# Altium integrated library NSC Voltage Reference.IntLib: 272 symbols (part 2 of 6)
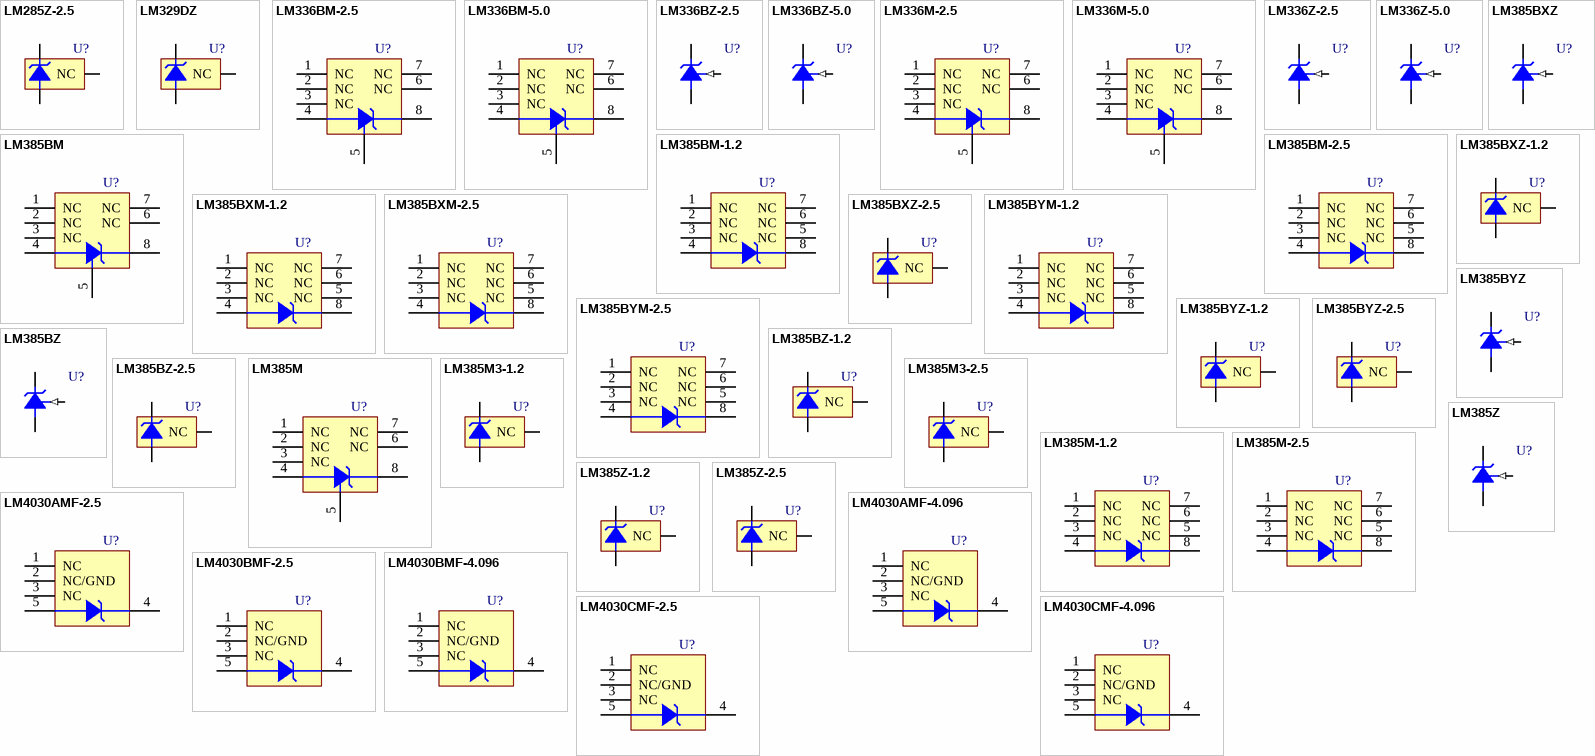
[diagram p7: symbols LM285Z-2.5 to LM4030CMF-4.096]

## LM385BM-1.2
designator U?
Micropower Voltage Reference Diode; PartNumber: LM385BM-1.2; Manufacturer: National Semiconductor; CompType: Voltage Reference IC; PackageTopMarking: NSZXTT*LM385*BM1.2; Published: 4-Dec-2008; DatasheetVersion: Jan-2008; PackageVersion: revL, Sep-2006; PackageReference: M08A; Publisher: Altium Limited; PackageDescription: SOIC Narrow, 4.9 x 3.9 x 1.45mm, 8 Lead, 1.27mm Pitch; RoHS: O; PinCount: 8; DigiKeyPartNumber: LM385BM-1.2-ND; Code_JEDEC: MS-012-AA; Code_IPC: SOIC127P600-8; ComponentLink1Description: LM385-1.2 Datasheet; ComponentLink1URL: http://www.national.com/ds/LM/LM385-1.2.pdf; ComponentLink2Description: LM385-1.2 Web Page; ComponentLink2URL: http://www.national.com/pf/LM/LM385-1.2.html; ComponentLink3Description: M08A Package Page; ComponentLink3URL: http://www.national.com/packaging/folders/m08a.html
footprint M08A_N (SOIC, 8-Leads, Body 4.9x3.9mm, Pitch 1.27mm, IPC Medium Density)
footprint M08A_L (SOIC, 8-Leads, Body 4.9x3.9mm, Pitch 1.27mm, IPC High Density)
footprint M08A_M (SOIC, 8-Leads, Body 4.9x3.9mm, Pitch 1.27mm, IPC Low Density)
pins: 1 NC, 2 NC, 3 NC, 4 -V, 5 NC, 6 NC, 7 NC, 8 +V

## LM385BM-2.5
designator U?
Micropower Voltage Reference Diode; PartNumber: LM385BM-2.5; Manufacturer: National Semiconductor; CompType: Voltage Reference IC; PackageTopMarking: NSZXTT*LM385*BM2.5; Published: 4-Dec-2008; DatasheetVersion: Jan-2008; PackageVersion: revL, Sep-2006; PackageReference: M08A; Publisher: Altium Limited; PackageDescription: SOIC Narrow, 4.9 x 3.9 x 1.45mm, 8 Lead, 1.27mm Pitch; RoHS: O; PinCount: 8; DigiKeyPartNumber: LM385BM-2.5-ND; Code_JEDEC: MS-012-AA; Code_IPC: SOIC127P600-8; ComponentLink1Description: LM385-2.5 Datasheet; ComponentLink1URL: http://www.national.com/ds/LM/LM385-2.5.pdf; ComponentLink2Description: LM385-2.5 Web Page; ComponentLink2URL: http://www.national.com/pf/LM/LM385-2.5.html; ComponentLink3Description: M08A Package Page; ComponentLink3URL: http://www.national.com/packaging/folders/m08a.html
footprint M08A_N (SOIC, 8-Leads, Body 4.9x3.9mm, Pitch 1.27mm, IPC Medium Density)
footprint M08A_L (SOIC, 8-Leads, Body 4.9x3.9mm, Pitch 1.27mm, IPC High Density)
footprint M08A_M (SOIC, 8-Leads, Body 4.9x3.9mm, Pitch 1.27mm, IPC Low Density)
pins: 1 NC, 2 NC, 3 NC, 4 -V, 5 NC, 6 NC, 7 NC, 8 +V

## LM385BXM-1.2
designator U?
Micropower Voltage Reference Diode; PartNumber: LM385BXM-1.2; Manufacturer: National Semiconductor; CompType: Voltage Reference IC; PackageTopMarking: NSZXTT*385BX*M1.2; Published: 4-Dec-2008; DatasheetVersion: Jan-2008; PackageVersion: revL, Sep-2006; PackageReference: M08A; Publisher: Altium Limited; PackageDescription: SOIC Narrow, 4.9 x 3.9 x 1.45mm, 8 Lead, 1.27mm Pitch; RoHS: O; PinCount: 8; DigiKeyPartNumber: LM385BXM-1.2-ND; Code_JEDEC: MS-012-AA; Code_IPC: SOIC127P600-8; ComponentLink1Description: LM385-1.2 Datasheet; ComponentLink1URL: http://www.national.com/ds/LM/LM385-1.2.pdf; ComponentLink2Description: LM385-1.2 Web Page; ComponentLink2URL: http://www.national.com/pf/LM/LM385-1.2.html; ComponentLink3Description: M08A Package Page; ComponentLink3URL: http://www.national.com/packaging/folders/m08a.html
footprint M08A_N (SOIC, 8-Leads, Body 4.9x3.9mm, Pitch 1.27mm, IPC Medium Density)
footprint M08A_L (SOIC, 8-Leads, Body 4.9x3.9mm, Pitch 1.27mm, IPC High Density)
footprint M08A_M (SOIC, 8-Leads, Body 4.9x3.9mm, Pitch 1.27mm, IPC Low Density)
pins: 1 NC, 2 NC, 3 NC, 4 -V, 5 NC, 6 NC, 7 NC, 8 +V

## LM385BXM-2.5
designator U?
Micropower Voltage Reference Diode; PartNumber: LM385BXM-2.5; Manufacturer: National Semiconductor; CompType: Voltage Reference IC; PackageTopMarking: NSZXTT*385BX*M2.5; Published: 4-Dec-2008; DatasheetVersion: Jan-2008; PackageVersion: revL, Sep-2006; PackageReference: M08A; Publisher: Altium Limited; PackageDescription: SOIC Narrow, 4.9 x 3.9 x 1.45mm, 8 Lead, 1.27mm Pitch; RoHS: O; PinCount: 8; DigiKeyPartNumber: LM385BXM-2.5-ND; Code_JEDEC: MS-012-AA; Code_IPC: SOIC127P600-8; ComponentLink1Description: LM385-2.5 Datasheet; ComponentLink1URL: http://www.national.com/ds/LM/LM385-2.5.pdf; ComponentLink2Description: LM385-2.5 Web Page; ComponentLink2URL: http://www.national.com/pf/LM/LM385-2.5.html; ComponentLink3Description: M08A Package Page; ComponentLink3URL: http://www.national.com/packaging/folders/m08a.html
footprint M08A_N (SOIC, 8-Leads, Body 4.9x3.9mm, Pitch 1.27mm, IPC Medium Density)
footprint M08A_L (SOIC, 8-Leads, Body 4.9x3.9mm, Pitch 1.27mm, IPC High Density)
footprint M08A_M (SOIC, 8-Leads, Body 4.9x3.9mm, Pitch 1.27mm, IPC Low Density)
pins: 1 NC, 2 NC, 3 NC, 4 -V, 5 NC, 6 NC, 7 NC, 8 +V

## LM385BXZ
designator U?
Adjustable Micropower Voltage Reference; PartNumber: LM385BXZ; Manufacturer: National Semiconductor; CompType: Voltage Reference IC; PackageTopMarking: NSXYTT*LM385*BXZ; Published: 4-Dec-2008; DatasheetVersion: Jan-2008; PackageVersion: revG, Sep-2000; PackageReference: Z03A; Publisher: Altium Limited; PackageDescription: TO-92, Molded, 3 Lead; RoHS: Y; PinCount: 3; DigiKeyPartNumber: LM385BXZ-ND; Code_JEDEC: TO-226-AA; ComponentLink1Description: LM385-ADJ Datasheet; ComponentLink1URL: http://www.national.com/ds/LM/LM385-ADJ.pdf; ComponentLink2Description: LM385-ADJ Web Page; ComponentLink2URL: http://www.national.com/pf/LM/LM385-ADJ.html; ComponentLink3Description: Z03A Package Page; ComponentLink3URL: http://www.national.com/packaging/folders/z03a.html
footprint Z03A (TO, Flat Index; 3 In-Line, Axial Leads; Body Dia. 5mm; Leads 0.55 x 0.50 mm (max))
pins: 1 -V, 2 +V, 3 FB (in)

## LM385BXZ-1.2
designator U?
Micropower Voltage Reference Diode; PartNumber: LM385BXZ-1.2; Manufacturer: National Semiconductor; CompType: Voltage Reference IC; PackageTopMarking: NSXYTT*385BX*Z-1.2; Published: 4-Dec-2008; DatasheetVersion: Jan-2008; PackageVersion: revG, Sep-2000; PackageReference: Z03A; Publisher: Altium Limited; PackageDescription: TO-92, Molded, 3 Lead; RoHS: Y; PinCount: 3; DigiKeyPartNumber: LM385BXZ-1.2-ND; Code_JEDEC: TO-226-AA; ComponentLink1Description: LM385-1.2 Datasheet; ComponentLink1URL: http://www.national.com/ds/LM/LM385-1.2.pdf; ComponentLink2Description: LM385-1.2 Web Page; ComponentLink2URL: http://www.national.com/pf/LM/LM385-1.2.html; ComponentLink3Description: Z03A Package Page; ComponentLink3URL: http://www.national.com/packaging/folders/z03a.html
footprint Z03A (TO, Flat Index; 3 In-Line, Axial Leads; Body Dia. 5mm; Leads 0.55 x 0.50 mm (max))
pins: 1 -V, 2 +V, 3 NC

## LM385BXZ-2.5
designator U?
Micropower Voltage Reference Diode; PartNumber: LM385BXZ-2.5; Manufacturer: National Semiconductor; CompType: Voltage Reference IC; PackageTopMarking: NSXYTT*385BX*Z-2.5; Published: 4-Dec-2008; DatasheetVersion: Jan-2008; PackageVersion: revG, Sep-2000; PackageReference: Z03A; Publisher: Altium Limited; PackageDescription: TO-92, Molded, 3 Lead; RoHS: O; PinCount: 3; DigiKeyPartNumber: LM385BXZ-2.5-ND; Code_JEDEC: TO-226-AA; ComponentLink1Description: LM385-2.5 Datasheet; ComponentLink1URL: http://www.national.com/ds/LM/LM385-2.5.pdf; ComponentLink2Description: LM385-2.5 Web Page; ComponentLink2URL: http://www.national.com/pf/LM/LM385-2.5.html; ComponentLink3Description: Z03A Package Page; ComponentLink3URL: http://www.national.com/packaging/folders/z03a.html
footprint Z03A (TO, Flat Index; 3 In-Line, Axial Leads; Body Dia. 5mm; Leads 0.55 x 0.50 mm (max))
pins: 1 -V, 2 +V, 3 NC

## LM385BYM-1.2
designator U?
Micropower Voltage Reference Diode; PartNumber: LM385BYM-1.2; Manufacturer: National Semiconductor; CompType: Voltage Reference IC; PackageTopMarking: NSZXTT*385BY*M1.2; Published: 4-Dec-2008; DatasheetVersion: Jan-2008; PackageVersion: revL, Sep-2006; PackageReference: M08A; Publisher: Altium Limited; PackageDescription: SOIC Narrow, 4.9 x 3.9 x 1.45mm, 8 Lead, 1.27mm Pitch; RoHS: Y; PinCount: 8; DigiKeyPartNumber: LM385BYM-1.2-ND; Code_JEDEC: MS-012-AA; Code_IPC: SOIC127P600-8; ComponentLink1Description: LM385-1.2 Datasheet; ComponentLink1URL: http://www.national.com/ds/LM/LM385-1.2.pdf; ComponentLink2Description: LM385-1.2 Web Page; ComponentLink2URL: http://www.national.com/pf/LM/LM385-1.2.html; ComponentLink3Description: M08A Package Page; ComponentLink3URL: http://www.national.com/packaging/folders/m08a.html
footprint M08A_N (SOIC, 8-Leads, Body 4.9x3.9mm, Pitch 1.27mm, IPC Medium Density)
footprint M08A_L (SOIC, 8-Leads, Body 4.9x3.9mm, Pitch 1.27mm, IPC High Density)
footprint M08A_M (SOIC, 8-Leads, Body 4.9x3.9mm, Pitch 1.27mm, IPC Low Density)
pins: 1 NC, 2 NC, 3 NC, 4 -V, 5 NC, 6 NC, 7 NC, 8 +V

## LM385BYM-2.5
designator U?
Micropower Voltage Reference Diode; PartNumber: LM385BYM-2.5; Manufacturer: National Semiconductor; CompType: Voltage Reference IC; PackageTopMarking: NSZXTT*385BY*M2.5; Published: 4-Dec-2008; DatasheetVersion: Jan-2008; PackageVersion: revL, Sep-2006; PackageReference: M08A; Publisher: Altium Limited; PackageDescription: SOIC Narrow, 4.9 x 3.9 x 1.45mm, 8 Lead, 1.27mm Pitch; RoHS: Y; PinCount: 8; DigiKeyPartNumber: LM385BYM-2.5-ND; Code_JEDEC: MS-012-AA; Code_IPC: SOIC127P600-8; ComponentLink1Description: LM385-2.5 Datasheet; ComponentLink1URL: http://www.national.com/ds/LM/LM385-2.5.pdf; ComponentLink2Description: LM385-2.5 Web Page; ComponentLink2URL: http://www.national.com/pf/LM/LM385-2.5.html; ComponentLink3Description: M08A Package Page; ComponentLink3URL: http://www.national.com/packaging/folders/m08a.html
footprint M08A_N (SOIC, 8-Leads, Body 4.9x3.9mm, Pitch 1.27mm, IPC Medium Density)
footprint M08A_L (SOIC, 8-Leads, Body 4.9x3.9mm, Pitch 1.27mm, IPC High Density)
footprint M08A_M (SOIC, 8-Leads, Body 4.9x3.9mm, Pitch 1.27mm, IPC Low Density)
pins: 1 NC, 2 NC, 3 NC, 4 -V, 5 NC, 6 NC, 7 NC, 8 +V

## LM385BYZ
designator U?
Adjustable Micropower Voltage Reference; PartNumber: LM385BYZ; Manufacturer: National Semiconductor; CompType: Voltage Reference IC; PackageTopMarking: NSXYTT*LM385*BYZ; Published: 4-Dec-2008; DatasheetVersion: Jan-2008; PackageVersion: revG, Sep-2000; PackageReference: Z03A; Publisher: Altium Limited; PackageDescription: TO-92, Molded, 3 Lead; RoHS: Y; PinCount: 3; DigiKeyPartNumber: LM385BYZ-ND; Code_JEDEC: TO-226-AA; ComponentLink1Description: LM385-ADJ Datasheet; ComponentLink1URL: http://www.national.com/ds/LM/LM385-ADJ.pdf; ComponentLink2Description: LM385-ADJ Web Page; ComponentLink2URL: http://www.national.com/pf/LM/LM385-ADJ.html; ComponentLink3Description: Z03A Package Page; ComponentLink3URL: http://www.national.com/packaging/folders/z03a.html
footprint Z03A (TO, Flat Index; 3 In-Line, Axial Leads; Body Dia. 5mm; Leads 0.55 x 0.50 mm (max))
pins: 1 -V, 2 +V, 3 FB (in)

## LM385BYZ-1.2
designator U?
Micropower Voltage Reference Diode; PartNumber: LM385BYZ-1.2; Manufacturer: National Semiconductor; CompType: Voltage Reference IC; PackageTopMarking: NSXYTT*385BY*Z-1.2; Published: 4-Dec-2008; DatasheetVersion: Jan-2008; PackageVersion: revG, Sep-2000; PackageReference: Z03A; Publisher: Altium Limited; PackageDescription: TO-92, Molded, 3 Lead; RoHS: Y; PinCount: 3; DigiKeyPartNumber: LM385BYZ-1.2-ND; Code_JEDEC: TO-226-AA; ComponentLink1Description: LM385-1.2 Datasheet; ComponentLink1URL: http://www.national.com/ds/LM/LM385-1.2.pdf; ComponentLink2Description: LM385-1.2 Web Page; ComponentLink2URL: http://www.national.com/pf/LM/LM385-1.2.html; ComponentLink3Description: Z03A Package Page; ComponentLink3URL: http://www.national.com/packaging/folders/z03a.html
footprint Z03A (TO, Flat Index; 3 In-Line, Axial Leads; Body Dia. 5mm; Leads 0.55 x 0.50 mm (max))
pins: 1 -V, 2 +V, 3 NC

## LM385BYZ-2.5
designator U?
Micropower Voltage Reference Diode; PartNumber: LM385BYZ-2.5; Manufacturer: National Semiconductor; CompType: Voltage Reference IC; PackageTopMarking: NSXYTT*385BY*Z-2.5; Published: 4-Dec-2008; DatasheetVersion: Jan-2008; PackageVersion: revG, Sep-2000; PackageReference: Z03A; Publisher: Altium Limited; PackageDescription: TO-92, Molded, 3 Lead; RoHS: Y; PinCount: 3; DigiKeyPartNumber: LM385BYZ-2.5-ND; Code_JEDEC: TO-226-AA; ComponentLink1Description: LM385-2.5 Datasheet; ComponentLink1URL: http://www.national.com/ds/LM/LM385-2.5.pdf; ComponentLink2Description: LM385-2.5 Web Page; ComponentLink2URL: http://www.national.com/pf/LM/LM385-2.5.html; ComponentLink3Description: Z03A Package Page; ComponentLink3URL: http://www.national.com/packaging/folders/z03a.html
footprint Z03A (TO, Flat Index; 3 In-Line, Axial Leads; Body Dia. 5mm; Leads 0.55 x 0.50 mm (max))
pins: 1 -V, 2 +V, 3 NC

## LM385BZ
designator U?
Adjustable Micropower Voltage Reference; PartNumber: LM385BZ; Manufacturer: National Semiconductor; CompType: Voltage Reference IC; PackageTopMarking: NSXYTT*LM385*BZ; Published: 4-Dec-2008; DatasheetVersion: Jan-2008; PackageVersion: revG, Sep-2000; PackageReference: Z03A; Publisher: Altium Limited; PackageDescription: TO-92, Molded, 3 Lead; RoHS: Y; PinCount: 3; DigiKeyPartNumber: LM385BZ-ND; Code_JEDEC: TO-226-AA; ComponentLink1Description: LM385-ADJ Datasheet; ComponentLink1URL: http://www.national.com/ds/LM/LM385-ADJ.pdf; ComponentLink2Description: LM385-ADJ Web Page; ComponentLink2URL: http://www.national.com/pf/LM/LM385-ADJ.html; ComponentLink3Description: Z03A Package Page; ComponentLink3URL: http://www.national.com/packaging/folders/z03a.html
footprint Z03A (TO, Flat Index; 3 In-Line, Axial Leads; Body Dia. 5mm; Leads 0.55 x 0.50 mm (max))
pins: 1 -V, 2 +V, 3 FB (in)

## LM385BZ-1.2
designator U?
Micropower Voltage Reference Diode; PartNumber: LM385BZ-1.2; Manufacturer: National Semiconductor; CompType: Voltage Reference IC; PackageTopMarking: NSXYTT*LM385*BZ1.2; Published: 4-Dec-2008; DatasheetVersion: Jan-2008; PackageVersion: revG, Sep-2000; PackageReference: Z03A; Publisher: Altium Limited; PackageDescription: TO-92, Molded, 3 Lead; RoHS: O; PinCount: 3; DigiKeyPartNumber: LM385BZ-1.2NS-ND; Code_JEDEC: TO-226-AA; ComponentLink1Description: LM385-1.2 Datasheet; ComponentLink1URL: http://www.national.com/ds/LM/LM385-1.2.pdf; ComponentLink2Description: LM385-1.2 Web Page; ComponentLink2URL: http://www.national.com/pf/LM/LM385-1.2.html; ComponentLink3Description: Z03A Package Page; ComponentLink3URL: http://www.national.com/packaging/folders/z03a.html
footprint Z03A (TO, Flat Index; 3 In-Line, Axial Leads; Body Dia. 5mm; Leads 0.55 x 0.50 mm (max))
pins: 1 -V, 2 +V, 3 NC

## LM385BZ-2.5
designator U?
Micropower Voltage Reference Diode; PartNumber: LM385BZ-2.5; Manufacturer: National Semiconductor; CompType: Voltage Reference IC; PackageTopMarking: NSXYTT*LM385*BZ2.5; Published: 4-Dec-2008; DatasheetVersion: Jan-2008; PackageVersion: revG, Sep-2000; PackageReference: Z03A; Publisher: Altium Limited; PackageDescription: TO-92, Molded, 3 Lead; RoHS: Y; PinCount: 3; DigiKeyPartNumber: LM385BZ-2.5NS-ND; Code_JEDEC: TO-226-AA; ComponentLink1Description: LM385-2.5 Datasheet; ComponentLink1URL: http://www.national.com/ds/LM/LM385-2.5.pdf; ComponentLink2Description: LM385-2.5 Web Page; ComponentLink2URL: http://www.national.com/pf/LM/LM385-2.5.html; ComponentLink3Description: Z03A Package Page; ComponentLink3URL: http://www.national.com/packaging/folders/z03a.html
footprint Z03A (TO, Flat Index; 3 In-Line, Axial Leads; Body Dia. 5mm; Leads 0.55 x 0.50 mm (max))
pins: 1 -V, 2 +V, 3 NC

## LM385M
designator U?
Adjustable Micropower Voltage Reference; PartNumber: LM385M; Manufacturer: National Semiconductor; CompType: Voltage Reference IC; PackageTopMarking: NSZXTT*LM385*M; Published: 4-Dec-2008; DatasheetVersion: Jan-2008; PackageVersion: revL, Sep-2006; PackageReference: M08A; Publisher: Altium Limited; PackageDescription: SOIC Narrow, 4.9 x 3.9 x 1.45mm, 8 Lead, 1.27mm Pitch; RoHS: O; PinCount: 8; DigiKeyPartNumber: LM385M-ND; Code_JEDEC: MS-012-AA; Code_IPC: SOIC127P600-8; ComponentLink1Description: LM385-ADJ Datasheet; ComponentLink1URL: http://www.national.com/ds/LM/LM385-ADJ.pdf; ComponentLink2Description: LM385-ADJ Web Page; ComponentLink2URL: http://www.national.com/pf/LM/LM385-ADJ.html; ComponentLink3Description: M08A Package Page; ComponentLink3URL: http://www.national.com/packaging/folders/m08a.html
footprint M08A_N (SOIC, 8-Leads, Body 4.9x3.9mm, Pitch 1.27mm, IPC Medium Density)
footprint M08A_L (SOIC, 8-Leads, Body 4.9x3.9mm, Pitch 1.27mm, IPC High Density)
footprint M08A_M (SOIC, 8-Leads, Body 4.9x3.9mm, Pitch 1.27mm, IPC Low Density)
pins: 1 NC, 2 NC, 3 NC, 4 -V, 5 FB, 6 NC, 7 NC, 8 +V

## LM385M3-1.2
designator U?
Micropower Voltage Reference Diode; PartNumber: LM385M3-1.2; Manufacturer: National Semiconductor; CompType: Voltage Reference IC; PackageTopMarking: R11*XTT; Published: 4-Dec-2008; DatasheetVersion: Jan-2008; PackageVersion: revB, Mar-2003; PackageReference: MF03A; Publisher: Altium Limited; PackageDescription: Molded SOT-23, .115 x .051 x .037in Body, 3 Lead, .075 in Pitch; RoHS: O; PinCount: 3; ComponentLink1Description: LM385-1.2 Datasheet; ComponentLink1URL: http://www.national.com/ds/LM/LM385-1.2.pdf; ComponentLink2Description: LM385-1.2 Web Page; ComponentLink2URL: http://www.national.com/pf/LM/LM385-1.2.html; ComponentLink3Description: MF03A Package Page; ComponentLink3URL: http://www.national.com/packaging/folders/mf03a.html
footprint MF03A_N (SOT23, 3-Leads, Body 2.9x1.3mm, Pitch 0.95mm, Lead Span 2.4mm, IPC Medium Density)
footprint MF03A_L (SOT23, 3-Leads, Body 2.9x1.3mm, Pitch 0.95mm, Lead Span 2.4mm, IPC High Density)
footprint MF03A_M (SOT23, 3-Leads, Body 2.9x1.3mm, Pitch 0.95mm, Lead Span 2.4mm, IPC Low Density)
pins: 1 +V, 2 -V, 3 NC

## LM385M3-2.5
designator U?
Micropower Voltage Reference Diode; PartNumber: LM385M3-2.5; Manufacturer: National Semiconductor; CompType: Voltage Reference IC; PackageTopMarking: R12*XTT; Published: 4-Dec-2008; DatasheetVersion: Jan-2008; PackageVersion: revB, Mar-2003; PackageReference: MF03A; Publisher: Altium Limited; PackageDescription: Molded SOT-23, .115 x .051 x .037in Body, 3 Lead, .075 in Pitch; RoHS: O; PinCount: 3; DigiKeyPartNumber: LM385M3-2.5CT-ND; ComponentLink1Description: LM385-2.5 Datasheet; ComponentLink1URL: http://www.national.com/ds/LM/LM385-2.5.pdf; ComponentLink2Description: LM385-2.5 Web Page; ComponentLink2URL: http://www.national.com/pf/LM/LM385-2.5.html; ComponentLink3Description: MF03A Package Page; ComponentLink3URL: http://www.national.com/packaging/folders/mf03a.html
footprint MF03A_N (SOT23, 3-Leads, Body 2.9x1.3mm, Pitch 0.95mm, Lead Span 2.4mm, IPC Medium Density)
footprint MF03A_L (SOT23, 3-Leads, Body 2.9x1.3mm, Pitch 0.95mm, Lead Span 2.4mm, IPC High Density)
footprint MF03A_M (SOT23, 3-Leads, Body 2.9x1.3mm, Pitch 0.95mm, Lead Span 2.4mm, IPC Low Density)
pins: 1 +V, 2 -V, 3 NC

## LM385M-1.2
designator U?
Micropower Voltage Reference Diode; PartNumber: LM385M-1.2; Manufacturer: National Semiconductor; CompType: Voltage Reference IC; PackageTopMarking: NSZXTT*LM385*M1.2; Published: 4-Dec-2008; DatasheetVersion: Jan-2008; PackageVersion: revL, Sep-2006; PackageReference: M08A; Publisher: Altium Limited; PackageDescription: SOIC Narrow, 4.9 x 3.9 x 1.45mm, 8 Lead, 1.27mm Pitch; RoHS: O; PinCount: 8; DigiKeyPartNumber: LM385M-1.2-ND; Code_JEDEC: MS-012-AA; Code_IPC: SOIC127P600-8; ComponentLink1Description: LM385-1.2 Datasheet; ComponentLink1URL: http://www.national.com/ds/LM/LM385-1.2.pdf; ComponentLink2Description: LM385-1.2 Web Page; ComponentLink2URL: http://www.national.com/pf/LM/LM385-1.2.html; ComponentLink3Description: M08A Package Page; ComponentLink3URL: http://www.national.com/packaging/folders/m08a.html
footprint M08A_N (SOIC, 8-Leads, Body 4.9x3.9mm, Pitch 1.27mm, IPC Medium Density)
footprint M08A_L (SOIC, 8-Leads, Body 4.9x3.9mm, Pitch 1.27mm, IPC High Density)
footprint M08A_M (SOIC, 8-Leads, Body 4.9x3.9mm, Pitch 1.27mm, IPC Low Density)
pins: 1 NC, 2 NC, 3 NC, 4 -V, 5 NC, 6 NC, 7 NC, 8 +V

## LM385M-2.5
designator U?
Micropower Voltage Reference Diode; PartNumber: LM385M-2.5; Manufacturer: National Semiconductor; CompType: Voltage Reference IC; PackageTopMarking: NSZXTT*LM385*M2.5; Published: 4-Dec-2008; DatasheetVersion: Jan-2008; PackageVersion: revL, Sep-2006; PackageReference: M08A; Publisher: Altium Limited; PackageDescription: SOIC Narrow, 4.9 x 3.9 x 1.45mm, 8 Lead, 1.27mm Pitch; RoHS: O; PinCount: 8; DigiKeyPartNumber: LM385M-2.5-ND; Code_JEDEC: MS-012-AA; Code_IPC: SOIC127P600-8; ComponentLink1Description: LM385-2.5 Datasheet; ComponentLink1URL: http://www.national.com/ds/LM/LM385-2.5.pdf; ComponentLink2Description: LM385-2.5 Web Page; ComponentLink2URL: http://www.national.com/pf/LM/LM385-2.5.html; ComponentLink3Description: M08A Package Page; ComponentLink3URL: http://www.national.com/packaging/folders/m08a.html
footprint M08A_N (SOIC, 8-Leads, Body 4.9x3.9mm, Pitch 1.27mm, IPC Medium Density)
footprint M08A_L (SOIC, 8-Leads, Body 4.9x3.9mm, Pitch 1.27mm, IPC High Density)
footprint M08A_M (SOIC, 8-Leads, Body 4.9x3.9mm, Pitch 1.27mm, IPC Low Density)
pins: 1 NC, 2 NC, 3 NC, 4 -V, 5 NC, 6 NC, 7 NC, 8 +V

## LM385Z
designator U?
Adjustable Micropower Voltage Reference; PartNumber: LM385Z; Manufacturer: National Semiconductor; CompType: Voltage Reference IC; PackageTopMarking: NSXYTT*LM385*Z; Published: 4-Dec-2008; DatasheetVersion: Jan-2008; PackageVersion: revG, Sep-2000; PackageReference: Z03A; Publisher: Altium Limited; PackageDescription: TO-92, Molded, 3 Lead; RoHS: O; PinCount: 3; DigiKeyPartNumber: LM385Z-ND; Code_JEDEC: TO-226-AA; ComponentLink1Description: LM385-ADJ Datasheet; ComponentLink1URL: http://www.national.com/ds/LM/LM385-ADJ.pdf; ComponentLink2Description: LM385-ADJ Web Page; ComponentLink2URL: http://www.national.com/pf/LM/LM385-ADJ.html; ComponentLink3Description: Z03A Package Page; ComponentLink3URL: http://www.national.com/packaging/folders/z03a.html
footprint Z03A (TO, Flat Index; 3 In-Line, Axial Leads; Body Dia. 5mm; Leads 0.55 x 0.50 mm (max))
pins: 1 -V, 2 +V, 3 FB (in)

## LM385Z-1.2
designator U?
Micropower Voltage Reference Diode; PartNumber: LM385Z-1.2; Manufacturer: National Semiconductor; CompType: Voltage Reference IC; PackageTopMarking: NSXYTT*LM385*Z-1.2; Published: 4-Dec-2008; DatasheetVersion: Jan-2008; PackageVersion: revG, Sep-2000; PackageReference: Z03A; Publisher: Altium Limited; PackageDescription: TO-92, Molded, 3 Lead; RoHS: O; PinCount: 3; DigiKeyPartNumber: LM385Z-1.2NS-ND; Code_JEDEC: TO-226-AA; ComponentLink1Description: LM385-1.2 Datasheet; ComponentLink1URL: http://www.national.com/ds/LM/LM385-1.2.pdf; ComponentLink2Description: LM385-1.2 Web Page; ComponentLink2URL: http://www.national.com/pf/LM/LM385-1.2.html; ComponentLink3Description: Z03A Package Page; ComponentLink3URL: http://www.national.com/packaging/folders/z03a.html
footprint Z03A (TO, Flat Index; 3 In-Line, Axial Leads; Body Dia. 5mm; Leads 0.55 x 0.50 mm (max))
pins: 1 -V, 2 +V, 3 NC

## LM385Z-2.5
designator U?
Micropower Voltage Reference Diode; PartNumber: LM385Z-2.5; Manufacturer: National Semiconductor; CompType: Voltage Reference IC; PackageTopMarking: NSXYTT*LM385*Z2.5; Published: 4-Dec-2008; DatasheetVersion: Jan-2008; PackageVersion: revG, Sep-2000; PackageReference: Z03A; Publisher: Altium Limited; PackageDescription: TO-92, Molded, 3 Lead; RoHS: O; PinCount: 3; DigiKeyPartNumber: LM385Z-2.5NS-ND; Code_JEDEC: TO-226-AA; ComponentLink1Description: LM385-2.5 Datasheet; ComponentLink1URL: http://www.national.com/ds/LM/LM385-2.5.pdf; ComponentLink2Description: LM385-2.5 Web Page; ComponentLink2URL: http://www.national.com/pf/LM/LM385-2.5.html; ComponentLink3Description: Z03A Package Page; ComponentLink3URL: http://www.national.com/packaging/folders/z03a.html
footprint Z03A (TO, Flat Index; 3 In-Line, Axial Leads; Body Dia. 5mm; Leads 0.55 x 0.50 mm (max))
pins: 1 -V, 2 +V, 3 NC

## LM4030AMF-2.5
designator U?
SOT-23 Ultra-High Precision Shunt Voltage Reference; PartNumber: LM4030AMF-2.5; Manufacturer: National Semiconductor; CompType: Voltage Reference IC; PackageTopMarking: R5JA*XTT; Published: 4-Dec-2008; DatasheetVersion: May-2008; PackageVersion: revD, Aug-2008; PackageReference: MF05A; Publisher: Altium Limited; PackageDescription: Molded SOT-23, .115 x .063 x .040 in Body, 5 Lead, .0375 in Pitch; RoHS: Y; PinCount: 5; DigiKeyPartNumber: LM4030AMF-2.5-ND; Code_IPC: SOT23-5; ComponentLink1Description: LM4030 Datasheet; ComponentLink1URL: http://www.national.com/ds/LM/LM4030.pdf; ComponentLink2Description: LM4030 Web Page; ComponentLink2URL: http://www.national.com/pf/LM/LM4030.html; ComponentLink3Description: MF05A Package Page; ComponentLink3URL: http://www.national.com/packaging/folders/mf05a.html
footprint MF05A_N (SOT23, 5-Leads, Body 2.9x1.6mm, Pitch 0.95mm, Lead Span 2.8mm, IPC Medium Density)
footprint MF05A_L (SOT23, 5-Leads, Body 2.9x1.6mm, Pitch 0.95mm, Lead Span 2.8mm, IPC High Density)
footprint MF05A_M (SOT23, 5-Leads, Body 2.9x1.6mm, Pitch 0.95mm, Lead Span 2.8mm, IPC Low Density)
pins: 1 NC, 2 NC/GND, 3 NC, 4 +VREF, 5 -GND

## LM4030AMF-4.096
designator U?
SOT-23 Ultra-High Precision Shunt Voltage Reference; PartNumber: LM4030AMF-4.096; Manufacturer: National Semiconductor; CompType: Voltage Reference IC; PackageTopMarking: R5KA*XTT; Published: 4-Dec-2008; DatasheetVersion: May-2008; PackageVersion: revD, Aug-2008; PackageReference: MF05A; Publisher: Altium Limited; PackageDescription: Molded SOT-23, .115 x .063 x .040 in Body, 5 Lead, .0375 in Pitch; RoHS: Y; PinCount: 5; DigiKeyPartNumber: LM4030AMF-4.096-ND; Code_IPC: SOT23-5; ComponentLink1Description: LM4030 Datasheet; ComponentLink1URL: http://www.national.com/ds/LM/LM4030.pdf; ComponentLink2Description: LM4030 Web Page; ComponentLink2URL: http://www.national.com/pf/LM/LM4030.html; ComponentLink3Description: MF05A Package Page; ComponentLink3URL: http://www.national.com/packaging/folders/mf05a.html
footprint MF05A_N (SOT23, 5-Leads, Body 2.9x1.6mm, Pitch 0.95mm, Lead Span 2.8mm, IPC Medium Density)
footprint MF05A_L (SOT23, 5-Leads, Body 2.9x1.6mm, Pitch 0.95mm, Lead Span 2.8mm, IPC High Density)
footprint MF05A_M (SOT23, 5-Leads, Body 2.9x1.6mm, Pitch 0.95mm, Lead Span 2.8mm, IPC Low Density)
pins: 1 NC, 2 NC/GND, 3 NC, 4 +VREF, 5 -GND

## LM4030BMF-2.5
designator U?
SOT-23 Ultra-High Precision Shunt Voltage Reference; PartNumber: LM4030BMF-2.5; Manufacturer: National Semiconductor; CompType: Voltage Reference IC; PackageTopMarking: R5JB*XTT; Published: 4-Dec-2008; DatasheetVersion: May-2008; PackageVersion: revD, Aug-2008; PackageReference: MF05A; Publisher: Altium Limited; PackageDescription: Molded SOT-23, .115 x .063 x .040 in Body, 5 Lead, .0375 in Pitch; RoHS: Y; PinCount: 5; DigiKeyPartNumber: LM4030BMF-2.5-ND; Code_IPC: SOT23-5; ComponentLink1Description: LM4030 Datasheet; ComponentLink1URL: http://www.national.com/ds/LM/LM4030.pdf; ComponentLink2Description: LM4030 Web Page; ComponentLink2URL: http://www.national.com/pf/LM/LM4030.html; ComponentLink3Description: MF05A Package Page; ComponentLink3URL: http://www.national.com/packaging/folders/mf05a.html
footprint MF05A_N (SOT23, 5-Leads, Body 2.9x1.6mm, Pitch 0.95mm, Lead Span 2.8mm, IPC Medium Density)
footprint MF05A_L (SOT23, 5-Leads, Body 2.9x1.6mm, Pitch 0.95mm, Lead Span 2.8mm, IPC High Density)
footprint MF05A_M (SOT23, 5-Leads, Body 2.9x1.6mm, Pitch 0.95mm, Lead Span 2.8mm, IPC Low Density)
pins: 1 NC, 2 NC/GND, 3 NC, 4 +VREF, 5 -GND

## LM4030BMF-4.096
designator U?
SOT-23 Ultra-High Precision Shunt Voltage Reference; PartNumber: LM4030BMF-4.096; Manufacturer: National Semiconductor; CompType: Voltage Reference IC; PackageTopMarking: R5KB*XTT; Published: 4-Dec-2008; DatasheetVersion: May-2008; PackageVersion: revD, Aug-2008; PackageReference: MF05A; Publisher: Altium Limited; PackageDescription: Molded SOT-23, .115 x .063 x .040 in Body, 5 Lead, .0375 in Pitch; RoHS: Y; PinCount: 5; DigiKeyPartNumber: LM4030BMF-4.096-ND; Code_IPC: SOT23-5; ComponentLink1Description: LM4030 Datasheet; ComponentLink1URL: http://www.national.com/ds/LM/LM4030.pdf; ComponentLink2Description: LM4030 Web Page; ComponentLink2URL: http://www.national.com/pf/LM/LM4030.html; ComponentLink3Description: MF05A Package Page; ComponentLink3URL: http://www.national.com/packaging/folders/mf05a.html
footprint MF05A_N (SOT23, 5-Leads, Body 2.9x1.6mm, Pitch 0.95mm, Lead Span 2.8mm, IPC Medium Density)
footprint MF05A_L (SOT23, 5-Leads, Body 2.9x1.6mm, Pitch 0.95mm, Lead Span 2.8mm, IPC High Density)
footprint MF05A_M (SOT23, 5-Leads, Body 2.9x1.6mm, Pitch 0.95mm, Lead Span 2.8mm, IPC Low Density)
pins: 1 NC, 2 NC/GND, 3 NC, 4 +VREF, 5 -GND

## LM4030CMF-2.5
designator U?
SOT-23 Ultra-High Precision Shunt Voltage Reference; PartNumber: LM4030CMF-2.5; Manufacturer: National Semiconductor; CompType: Voltage Reference IC; PackageTopMarking: R5JC*XTT; Published: 4-Dec-2008; DatasheetVersion: May-2008; PackageVersion: revD, Aug-2008; PackageReference: MF05A; Publisher: Altium Limited; PackageDescription: Molded SOT-23, .115 x .063 x .040 in Body, 5 Lead, .0375 in Pitch; RoHS: Y; PinCount: 5; DigiKeyPartNumber: LM4030CMF-2.5-ND; Code_IPC: SOT23-5; ComponentLink1Description: LM4030 Datasheet; ComponentLink1URL: http://www.national.com/ds/LM/LM4030.pdf; ComponentLink2Description: LM4030 Web Page; ComponentLink2URL: http://www.national.com/pf/LM/LM4030.html; ComponentLink3Description: MF05A Package Page; ComponentLink3URL: http://www.national.com/packaging/folders/mf05a.html
footprint MF05A_N (SOT23, 5-Leads, Body 2.9x1.6mm, Pitch 0.95mm, Lead Span 2.8mm, IPC Medium Density)
footprint MF05A_L (SOT23, 5-Leads, Body 2.9x1.6mm, Pitch 0.95mm, Lead Span 2.8mm, IPC High Density)
footprint MF05A_M (SOT23, 5-Leads, Body 2.9x1.6mm, Pitch 0.95mm, Lead Span 2.8mm, IPC Low Density)
pins: 1 NC, 2 NC/GND, 3 NC, 4 +VREF, 5 -GND

## LM4030CMF-4.096
designator U?
SOT-23 Ultra-High Precision Shunt Voltage Reference; PartNumber: LM4030CMF-4.096; Manufacturer: National Semiconductor; CompType: Voltage Reference IC; PackageTopMarking: R5KC*XTT; Published: 4-Dec-2008; DatasheetVersion: May-2008; PackageVersion: revD, Aug-2008; PackageReference: MF05A; Publisher: Altium Limited; PackageDescription: Molded SOT-23, .115 x .063 x .040 in Body, 5 Lead, .0375 in Pitch; RoHS: Y; PinCount: 5; DigiKeyPartNumber: LM4030CMF-4.096-ND; Code_IPC: SOT23-5; ComponentLink1Description: LM4030 Datasheet; ComponentLink1URL: http://www.national.com/ds/LM/LM4030.pdf; ComponentLink2Description: LM4030 Web Page; ComponentLink2URL: http://www.national.com/pf/LM/LM4030.html; ComponentLink3Description: MF05A Package Page; ComponentLink3URL: http://www.national.com/packaging/folders/mf05a.html
footprint MF05A_N (SOT23, 5-Leads, Body 2.9x1.6mm, Pitch 0.95mm, Lead Span 2.8mm, IPC Medium Density)
footprint MF05A_L (SOT23, 5-Leads, Body 2.9x1.6mm, Pitch 0.95mm, Lead Span 2.8mm, IPC High Density)
footprint MF05A_M (SOT23, 5-Leads, Body 2.9x1.6mm, Pitch 0.95mm, Lead Span 2.8mm, IPC Low Density)
pins: 1 NC, 2 NC/GND, 3 NC, 4 +VREF, 5 -GND

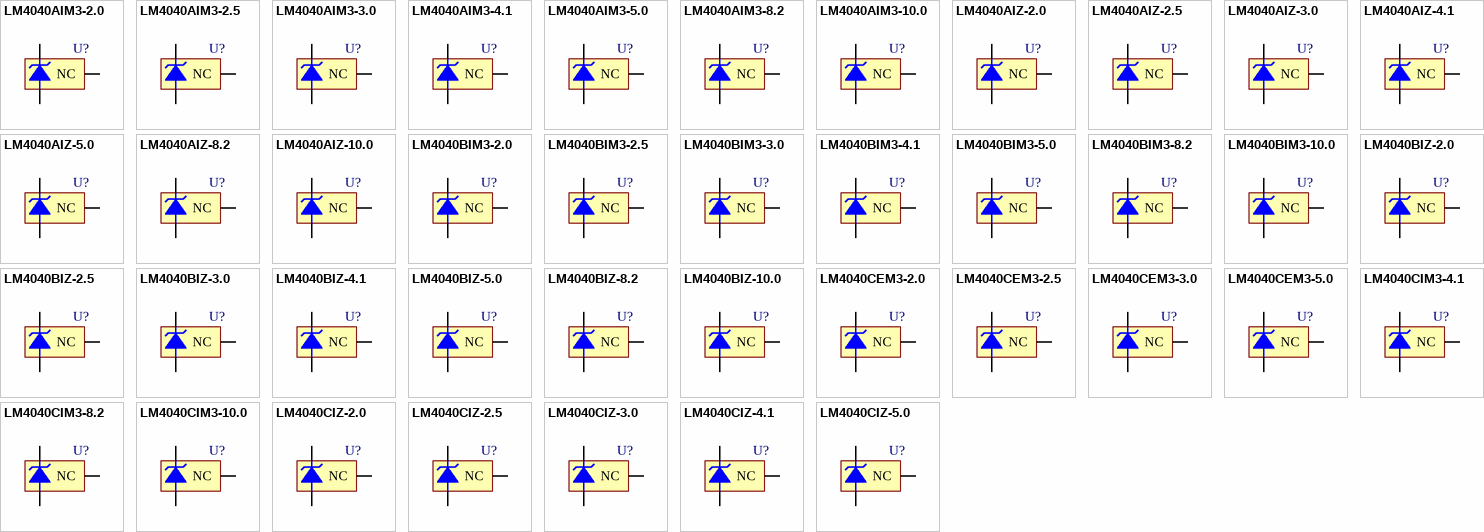
[diagram p2: symbols LM4040AIM3-2.0 to LM4040CIZ-5.0]

## LM4040AIM3-2.0
designator U?
Precision Micropower Shunt Voltage Reference; PartNumber: LM4040AIM3-2.0; Manufacturer: National Semiconductor; CompType: Voltage Reference IC; PackageTopMarking: RJA*XTT; Published: 4-Dec-2008; DatasheetVersion: Apr-2005; PackageVersion: revB, Mar-2003; PackageReference: MF03A; Publisher: Altium Limited; PackageDescription: Molded SOT-23, .115 x .051 x .037in Body, 3 Lead, .075 in Pitch; RoHS: O; PinCount: 3; DigiKeyPartNumber: LM4040AIM3-2.0-ND; ComponentLink1Description: LM4040 Datasheet; ComponentLink1URL: http://www.national.com/ds/LM/LM4040.pdf; ComponentLink2Description: LM4040 Web Page; ComponentLink2URL: http://www.national.com/pf/LM/LM4040.html; ComponentLink3Description: MF03A Package Page; ComponentLink3URL: http://www.national.com/packaging/folders/mf03a.html
footprint MF03A_N (SOT23, 3-Leads, Body 2.9x1.3mm, Pitch 0.95mm, Lead Span 2.4mm, IPC Medium Density)
footprint MF03A_L (SOT23, 3-Leads, Body 2.9x1.3mm, Pitch 0.95mm, Lead Span 2.4mm, IPC High Density)
footprint MF03A_M (SOT23, 3-Leads, Body 2.9x1.3mm, Pitch 0.95mm, Lead Span 2.4mm, IPC Low Density)
pins: 1 +V, 2 -V, 3 NC

## LM4040AIM3-2.5
designator U?
Precision Micropower Shunt Voltage Reference; PartNumber: LM4040AIM3-2.5; Manufacturer: National Semiconductor; CompType: Voltage Reference IC; PackageTopMarking: R2A*XTT; Published: 4-Dec-2008; DatasheetVersion: Apr-2005; PackageVersion: revB, Mar-2003; PackageReference: MF03A; Publisher: Altium Limited; PackageDescription: Molded SOT-23, .115 x .051 x .037in Body, 3 Lead, .075 in Pitch; RoHS: O; PinCount: 3; DigiKeyPartNumber: LM4040AIM3-2.5CT-ND; ComponentLink1Description: LM4040 Datasheet; ComponentLink1URL: http://www.national.com/ds/LM/LM4040.pdf; ComponentLink2Description: LM4040 Web Page; ComponentLink2URL: http://www.national.com/pf/LM/LM4040.html; ComponentLink3Description: MF03A Package Page; ComponentLink3URL: http://www.national.com/packaging/folders/mf03a.html
footprint MF03A_N (SOT23, 3-Leads, Body 2.9x1.3mm, Pitch 0.95mm, Lead Span 2.4mm, IPC Medium Density)
footprint MF03A_L (SOT23, 3-Leads, Body 2.9x1.3mm, Pitch 0.95mm, Lead Span 2.4mm, IPC High Density)
footprint MF03A_M (SOT23, 3-Leads, Body 2.9x1.3mm, Pitch 0.95mm, Lead Span 2.4mm, IPC Low Density)
pins: 1 +V, 2 -V, 3 NC

## LM4040AIM3-3.0
designator U?
Precision Micropower Shunt Voltage Reference; PartNumber: LM4040AIM3-3.0; Manufacturer: National Semiconductor; CompType: Voltage Reference IC; PackageTopMarking: RKA*XTT; Published: 4-Dec-2008; DatasheetVersion: Apr-2005; PackageVersion: revB, Mar-2003; PackageReference: MF03A; Publisher: Altium Limited; PackageDescription: Molded SOT-23, .115 x .051 x .037in Body, 3 Lead, .075 in Pitch; RoHS: O; PinCount: 3; ComponentLink1Description: LM4040 Datasheet; ComponentLink1URL: http://www.national.com/ds/LM/LM4040.pdf; ComponentLink2Description: LM4040 Web Page; ComponentLink2URL: http://www.national.com/pf/LM/LM4040.html; ComponentLink3Description: MF03A Package Page; ComponentLink3URL: http://www.national.com/packaging/folders/mf03a.html
footprint MF03A_N (SOT23, 3-Leads, Body 2.9x1.3mm, Pitch 0.95mm, Lead Span 2.4mm, IPC Medium Density)
footprint MF03A_L (SOT23, 3-Leads, Body 2.9x1.3mm, Pitch 0.95mm, Lead Span 2.4mm, IPC High Density)
footprint MF03A_M (SOT23, 3-Leads, Body 2.9x1.3mm, Pitch 0.95mm, Lead Span 2.4mm, IPC Low Density)
pins: 1 +V, 2 -V, 3 NC

## LM4040AIM3-4.1
designator U?
Precision Micropower Shunt Voltage Reference; PartNumber: LM4040AIM3-4.1; Manufacturer: National Semiconductor; CompType: Voltage Reference IC; PackageTopMarking: R4A*XTT; Published: 4-Dec-2008; DatasheetVersion: Apr-2005; PackageVersion: revB, Mar-2003; PackageReference: MF03A; Publisher: Altium Limited; PackageDescription: Molded SOT-23, .115 x .051 x .037in Body, 3 Lead, .075 in Pitch; RoHS: O; PinCount: 3; DigiKeyPartNumber: LM4040AIM3-4.1CT-ND; ComponentLink1Description: LM4040 Datasheet; ComponentLink1URL: http://www.national.com/ds/LM/LM4040.pdf; ComponentLink2Description: LM4040 Web Page; ComponentLink2URL: http://www.national.com/pf/LM/LM4040.html; ComponentLink3Description: MF03A Package Page; ComponentLink3URL: http://www.national.com/packaging/folders/mf03a.html
footprint MF03A_N (SOT23, 3-Leads, Body 2.9x1.3mm, Pitch 0.95mm, Lead Span 2.4mm, IPC Medium Density)
footprint MF03A_L (SOT23, 3-Leads, Body 2.9x1.3mm, Pitch 0.95mm, Lead Span 2.4mm, IPC High Density)
footprint MF03A_M (SOT23, 3-Leads, Body 2.9x1.3mm, Pitch 0.95mm, Lead Span 2.4mm, IPC Low Density)
pins: 1 +V, 2 -V, 3 NC

## LM4040AIM3-5.0
designator U?
Precision Micropower Shunt Voltage Reference; PartNumber: LM4040AIM3-5.0; Manufacturer: National Semiconductor; CompType: Voltage Reference IC; PackageTopMarking: R5A*XTT; Published: 4-Dec-2008; DatasheetVersion: Apr-2005; PackageVersion: revB, Mar-2003; PackageReference: MF03A; Publisher: Altium Limited; PackageDescription: Molded SOT-23, .115 x .051 x .037in Body, 3 Lead, .075 in Pitch; RoHS: O; PinCount: 3; DigiKeyPartNumber: LM4040AIM3-5.0CT-ND; ComponentLink1Description: LM4040 Datasheet; ComponentLink1URL: http://www.national.com/ds/LM/LM4040.pdf; ComponentLink2Description: LM4040 Web Page; ComponentLink2URL: http://www.national.com/pf/LM/LM4040.html; ComponentLink3Description: MF03A Package Page; ComponentLink3URL: http://www.national.com/packaging/folders/mf03a.html
footprint MF03A_N (SOT23, 3-Leads, Body 2.9x1.3mm, Pitch 0.95mm, Lead Span 2.4mm, IPC Medium Density)
footprint MF03A_L (SOT23, 3-Leads, Body 2.9x1.3mm, Pitch 0.95mm, Lead Span 2.4mm, IPC High Density)
footprint MF03A_M (SOT23, 3-Leads, Body 2.9x1.3mm, Pitch 0.95mm, Lead Span 2.4mm, IPC Low Density)
pins: 1 +V, 2 -V, 3 NC

## LM4040AIM3-8.2
designator U?
Precision Micropower Shunt Voltage Reference; PartNumber: LM4040AIM3-8.2; Manufacturer: National Semiconductor; CompType: Voltage Reference IC; PackageTopMarking: R8A*XTT; Published: 4-Dec-2008; DatasheetVersion: Apr-2005; PackageVersion: revB, Mar-2003; PackageReference: MF03A; Publisher: Altium Limited; PackageDescription: Molded SOT-23, .115 x .051 x .037in Body, 3 Lead, .075 in Pitch; RoHS: Y; PinCount: 3; DigiKeyPartNumber: LM4040AIM3-8.2CT-ND; ComponentLink1Description: LM4040 Datasheet; ComponentLink1URL: http://www.national.com/ds/LM/LM4040.pdf; ComponentLink2Description: LM4040 Web Page; ComponentLink2URL: http://www.national.com/pf/LM/LM4040.html; ComponentLink3Description: MF03A Package Page; ComponentLink3URL: http://www.national.com/packaging/folders/mf03a.html
footprint MF03A_N (SOT23, 3-Leads, Body 2.9x1.3mm, Pitch 0.95mm, Lead Span 2.4mm, IPC Medium Density)
footprint MF03A_L (SOT23, 3-Leads, Body 2.9x1.3mm, Pitch 0.95mm, Lead Span 2.4mm, IPC High Density)
footprint MF03A_M (SOT23, 3-Leads, Body 2.9x1.3mm, Pitch 0.95mm, Lead Span 2.4mm, IPC Low Density)
pins: 1 +V, 2 -V, 3 NC

## LM4040AIM3-10.0
designator U?
Precision Micropower Shunt Voltage Reference; PartNumber: LM4040AIM3-10.0; Manufacturer: National Semiconductor; CompType: Voltage Reference IC; PackageTopMarking: R0A*XTT; Published: 4-Dec-2008; DatasheetVersion: Apr-2005; PackageVersion: revB, Mar-2003; PackageReference: MF03A; Publisher: Altium Limited; PackageDescription: Molded SOT-23, .115 x .051 x .037in Body, 3 Lead, .075 in Pitch; RoHS: O; PinCount: 3; DigiKeyPartNumber: LM4040AIM3-10.0CT-ND; ComponentLink1Description: LM4040 Datasheet; ComponentLink1URL: http://www.national.com/ds/LM/LM4040.pdf; ComponentLink2Description: LM4040 Web Page; ComponentLink2URL: http://www.national.com/pf/LM/LM4040.html; ComponentLink3Description: MF03A Package Page; ComponentLink3URL: http://www.national.com/packaging/folders/mf03a.html
footprint MF03A_N (SOT23, 3-Leads, Body 2.9x1.3mm, Pitch 0.95mm, Lead Span 2.4mm, IPC Medium Density)
footprint MF03A_L (SOT23, 3-Leads, Body 2.9x1.3mm, Pitch 0.95mm, Lead Span 2.4mm, IPC High Density)
footprint MF03A_M (SOT23, 3-Leads, Body 2.9x1.3mm, Pitch 0.95mm, Lead Span 2.4mm, IPC Low Density)
pins: 1 +V, 2 -V, 3 NC

## LM4040AIZ-2.0
designator U?
Precision Micropower Shunt Voltage Reference; PartNumber: LM4040AIZ-2.0; Manufacturer: National Semiconductor; CompType: Voltage Reference IC; PackageTopMarking: NSXYTT*4040A*-2.0; Published: 4-Dec-2008; DatasheetVersion: Apr-2005; PackageVersion: revG, Sep-2000; PackageReference: Z03A; Publisher: Altium Limited; PackageDescription: TO-92, Molded, 3 Lead; RoHS: Y; PinCount: 3; DigiKeyPartNumber: LM4040AIZ-2.0-ND; Code_JEDEC: TO-226-AA; ComponentLink1Description: LM4040 Datasheet; ComponentLink1URL: http://www.national.com/ds/LM/LM4040.pdf; ComponentLink2Description: LM4040 Web Page; ComponentLink2URL: http://www.national.com/pf/LM/LM4040.html; ComponentLink3Description: Z03A Package Page; ComponentLink3URL: http://www.national.com/packaging/folders/z03a.html
footprint Z03A (TO, Flat Index; 3 In-Line, Axial Leads; Body Dia. 5mm; Leads 0.55 x 0.50 mm (max))
pins: 1 -V, 2 +V, 3 NC

## LM4040AIZ-2.5
designator U?
Precision Micropower Shunt Voltage Reference; PartNumber: LM4040AIZ-2.5; Manufacturer: National Semiconductor; CompType: Voltage Reference IC; PackageTopMarking: NSXYTT*4040A*IZ2.5; Published: 4-Dec-2008; DatasheetVersion: Apr-2005; PackageVersion: revG, Sep-2000; PackageReference: Z03A; Publisher: Altium Limited; PackageDescription: TO-92, Molded, 3 Lead; RoHS: O; PinCount: 3; DigiKeyPartNumber: LM4040AIZ-2.5-ND; Code_JEDEC: TO-226-AA; ComponentLink1Description: LM4040 Datasheet; ComponentLink1URL: http://www.national.com/ds/LM/LM4040.pdf; ComponentLink2Description: LM4040 Web Page; ComponentLink2URL: http://www.national.com/pf/LM/LM4040.html; ComponentLink3Description: Z03A Package Page; ComponentLink3URL: http://www.national.com/packaging/folders/z03a.html
footprint Z03A (TO, Flat Index; 3 In-Line, Axial Leads; Body Dia. 5mm; Leads 0.55 x 0.50 mm (max))
pins: 1 -V, 2 +V, 3 NC

## LM4040AIZ-3.0
designator U?
Precision Micropower Shunt Voltage Reference; PartNumber: LM4040AIZ-3.0; Manufacturer: National Semiconductor; CompType: Voltage Reference IC; PackageTopMarking: NSXYTT*4040A*-3.0; Published: 4-Dec-2008; DatasheetVersion: Apr-2005; PackageVersion: revG, Sep-2000; PackageReference: Z03A; Publisher: Altium Limited; PackageDescription: TO-92, Molded, 3 Lead; RoHS: Y; PinCount: 3; DigiKeyPartNumber: LM4040AIZ-3.0-ND; Code_JEDEC: TO-226-AA; ComponentLink1Description: LM4040 Datasheet; ComponentLink1URL: http://www.national.com/ds/LM/LM4040.pdf; ComponentLink2Description: LM4040 Web Page; ComponentLink2URL: http://www.national.com/pf/LM/LM4040.html; ComponentLink3Description: Z03A Package Page; ComponentLink3URL: http://www.national.com/packaging/folders/z03a.html
footprint Z03A (TO, Flat Index; 3 In-Line, Axial Leads; Body Dia. 5mm; Leads 0.55 x 0.50 mm (max))
pins: 1 -V, 2 +V, 3 NC

## LM4040AIZ-4.1
designator U?
Precision Micropower Shunt Voltage Reference; PartNumber: LM4040AIZ-4.1; Manufacturer: National Semiconductor; CompType: Voltage Reference IC; PackageTopMarking: NSXYTT*4040A*IZ4.1; Published: 4-Dec-2008; DatasheetVersion: Apr-2005; PackageVersion: revG, Sep-2000; PackageReference: Z03A; Publisher: Altium Limited; PackageDescription: TO-92, Molded, 3 Lead; RoHS: O; PinCount: 3; DigiKeyPartNumber: LM4040AIZ-4.1-ND; Code_JEDEC: TO-226-AA; ComponentLink1Description: LM4040 Datasheet; ComponentLink1URL: http://www.national.com/ds/LM/LM4040.pdf; ComponentLink2Description: LM4040 Web Page; ComponentLink2URL: http://www.national.com/pf/LM/LM4040.html; ComponentLink3Description: Z03A Package Page; ComponentLink3URL: http://www.national.com/packaging/folders/z03a.html
footprint Z03A (TO, Flat Index; 3 In-Line, Axial Leads; Body Dia. 5mm; Leads 0.55 x 0.50 mm (max))
pins: 1 -V, 2 +V, 3 NC

## LM4040AIZ-5.0
designator U?
Precision Micropower Shunt Voltage Reference; PartNumber: LM4040AIZ-5.0; Manufacturer: National Semiconductor; CompType: Voltage Reference IC; PackageTopMarking: NSXYTT*4040A*IZ5.0; Published: 4-Dec-2008; DatasheetVersion: Apr-2005; PackageVersion: revG, Sep-2000; PackageReference: Z03A; Publisher: Altium Limited; PackageDescription: TO-92, Molded, 3 Lead; RoHS: Y; PinCount: 3; DigiKeyPartNumber: LM4040AIZ-5.0-ND; Code_JEDEC: TO-226-AA; ComponentLink1Description: LM4040 Datasheet; ComponentLink1URL: http://www.national.com/ds/LM/LM4040.pdf; ComponentLink2Description: LM4040 Web Page; ComponentLink2URL: http://www.national.com/pf/LM/LM4040.html; ComponentLink3Description: Z03A Package Page; ComponentLink3URL: http://www.national.com/packaging/folders/z03a.html
footprint Z03A (TO, Flat Index; 3 In-Line, Axial Leads; Body Dia. 5mm; Leads 0.55 x 0.50 mm (max))
pins: 1 -V, 2 +V, 3 NC

## LM4040AIZ-8.2
designator U?
Precision Micropower Shunt Voltage Reference; PartNumber: LM4040AIZ-8.2; Manufacturer: National Semiconductor; CompType: Voltage Reference IC; PackageTopMarking: NSXYTT*4040A*IZ8.2; Published: 4-Dec-2008; DatasheetVersion: Apr-2005; PackageVersion: revG, Sep-2000; PackageReference: Z03A; Publisher: Altium Limited; PackageDescription: TO-92, Molded, 3 Lead; RoHS: Y; PinCount: 3; DigiKeyPartNumber: LM4040AIZ-8.2-ND; Code_JEDEC: TO-226-AA; ComponentLink1Description: LM4040 Datasheet; ComponentLink1URL: http://www.national.com/ds/LM/LM4040.pdf; ComponentLink2Description: LM4040 Web Page; ComponentLink2URL: http://www.national.com/pf/LM/LM4040.html; ComponentLink3Description: Z03A Package Page; ComponentLink3URL: http://www.national.com/packaging/folders/z03a.html
footprint Z03A (TO, Flat Index; 3 In-Line, Axial Leads; Body Dia. 5mm; Leads 0.55 x 0.50 mm (max))
pins: 1 -V, 2 +V, 3 NC

## LM4040AIZ-10.0
designator U?
Precision Micropower Shunt Voltage Reference; PartNumber: LM4040AIZ-10.0; Manufacturer: National Semiconductor; CompType: Voltage Reference IC; PackageTopMarking: NSXYTT*4040A*IZ10; Published: 4-Dec-2008; DatasheetVersion: Apr-2005; PackageVersion: revG, Sep-2000; PackageReference: Z03A; Publisher: Altium Limited; PackageDescription: TO-92, Molded, 3 Lead; RoHS: O; PinCount: 3; DigiKeyPartNumber: LM4040AIZ-10.0-ND; Code_JEDEC: TO-226-AA; ComponentLink1Description: LM4040 Datasheet; ComponentLink1URL: http://www.national.com/ds/LM/LM4040.pdf; ComponentLink2Description: LM4040 Web Page; ComponentLink2URL: http://www.national.com/pf/LM/LM4040.html; ComponentLink3Description: Z03A Package Page; ComponentLink3URL: http://www.national.com/packaging/folders/z03a.html
footprint Z03A (TO, Flat Index; 3 In-Line, Axial Leads; Body Dia. 5mm; Leads 0.55 x 0.50 mm (max))
pins: 1 -V, 2 +V, 3 NC

## LM4040BIM3-2.0
designator U?
Precision Micropower Shunt Voltage Reference; PartNumber: LM4040BIM3-2.0; Manufacturer: National Semiconductor; CompType: Voltage Reference IC; PackageTopMarking: RJB*XTT; Published: 4-Dec-2008; DatasheetVersion: Apr-2005; PackageVersion: revB, Mar-2003; PackageReference: MF03A; Publisher: Altium Limited; PackageDescription: Molded SOT-23, .115 x .051 x .037in Body, 3 Lead, .075 in Pitch; RoHS: Y; PinCount: 3; DigiKeyPartNumber: LM4040BIM3-2.0-ND; ComponentLink1Description: LM4040 Datasheet; ComponentLink1URL: http://www.national.com/ds/LM/LM4040.pdf; ComponentLink2Description: LM4040 Web Page; ComponentLink2URL: http://www.national.com/pf/LM/LM4040.html; ComponentLink3Description: MF03A Package Page; ComponentLink3URL: http://www.national.com/packaging/folders/mf03a.html
footprint MF03A_N (SOT23, 3-Leads, Body 2.9x1.3mm, Pitch 0.95mm, Lead Span 2.4mm, IPC Medium Density)
footprint MF03A_L (SOT23, 3-Leads, Body 2.9x1.3mm, Pitch 0.95mm, Lead Span 2.4mm, IPC High Density)
footprint MF03A_M (SOT23, 3-Leads, Body 2.9x1.3mm, Pitch 0.95mm, Lead Span 2.4mm, IPC Low Density)
pins: 1 +V, 2 -V, 3 NC

## LM4040BIM3-2.5
designator U?
Precision Micropower Shunt Voltage Reference; PartNumber: LM4040BIM3-2.5; Manufacturer: National Semiconductor; CompType: Voltage Reference IC; PackageTopMarking: R2B*XTT; Published: 4-Dec-2008; DatasheetVersion: Apr-2005; PackageVersion: revB, Mar-2003; PackageReference: MF03A; Publisher: Altium Limited; PackageDescription: Molded SOT-23, .115 x .051 x .037in Body, 3 Lead, .075 in Pitch; RoHS: O; PinCount: 3; DigiKeyPartNumber: LM4040BIM3-2.5CT-ND; ComponentLink1Description: LM4040 Datasheet; ComponentLink1URL: http://www.national.com/ds/LM/LM4040.pdf; ComponentLink2Description: LM4040 Web Page; ComponentLink2URL: http://www.national.com/pf/LM/LM4040.html; ComponentLink3Description: MF03A Package Page; ComponentLink3URL: http://www.national.com/packaging/folders/mf03a.html
footprint MF03A_N (SOT23, 3-Leads, Body 2.9x1.3mm, Pitch 0.95mm, Lead Span 2.4mm, IPC Medium Density)
footprint MF03A_L (SOT23, 3-Leads, Body 2.9x1.3mm, Pitch 0.95mm, Lead Span 2.4mm, IPC High Density)
footprint MF03A_M (SOT23, 3-Leads, Body 2.9x1.3mm, Pitch 0.95mm, Lead Span 2.4mm, IPC Low Density)
pins: 1 +V, 2 -V, 3 NC

## LM4040BIM3-3.0
designator U?
Precision Micropower Shunt Voltage Reference; PartNumber: LM4040BIM3-3.0; Manufacturer: National Semiconductor; CompType: Voltage Reference IC; PackageTopMarking: RKB*XTT; Published: 4-Dec-2008; DatasheetVersion: Apr-2005; PackageVersion: revB, Mar-2003; PackageReference: MF03A; Publisher: Altium Limited; PackageDescription: Molded SOT-23, .115 x .051 x .037in Body, 3 Lead, .075 in Pitch; RoHS: O; PinCount: 3; DigiKeyPartNumber: LM4040BIM3-3.0-ND; ComponentLink1Description: LM4040 Datasheet; ComponentLink1URL: http://www.national.com/ds/LM/LM4040.pdf; ComponentLink2Description: LM4040 Web Page; ComponentLink2URL: http://www.national.com/pf/LM/LM4040.html; ComponentLink3Description: MF03A Package Page; ComponentLink3URL: http://www.national.com/packaging/folders/mf03a.html
footprint MF03A_N (SOT23, 3-Leads, Body 2.9x1.3mm, Pitch 0.95mm, Lead Span 2.4mm, IPC Medium Density)
footprint MF03A_L (SOT23, 3-Leads, Body 2.9x1.3mm, Pitch 0.95mm, Lead Span 2.4mm, IPC High Density)
footprint MF03A_M (SOT23, 3-Leads, Body 2.9x1.3mm, Pitch 0.95mm, Lead Span 2.4mm, IPC Low Density)
pins: 1 +V, 2 -V, 3 NC

## LM4040BIM3-4.1
designator U?
Precision Micropower Shunt Voltage Reference; PartNumber: LM4040BIM3-4.1; Manufacturer: National Semiconductor; CompType: Voltage Reference IC; PackageTopMarking: R4B*XTT; Published: 4-Dec-2008; DatasheetVersion: Apr-2005; PackageVersion: revB, Mar-2003; PackageReference: MF03A; Publisher: Altium Limited; PackageDescription: Molded SOT-23, .115 x .051 x .037in Body, 3 Lead, .075 in Pitch; RoHS: O; PinCount: 3; DigiKeyPartNumber: LM4040BIM3-4.1CT-ND; ComponentLink1Description: LM4040 Datasheet; ComponentLink1URL: http://www.national.com/ds/LM/LM4040.pdf; ComponentLink2Description: LM4040 Web Page; ComponentLink2URL: http://www.national.com/pf/LM/LM4040.html; ComponentLink3Description: MF03A Package Page; ComponentLink3URL: http://www.national.com/packaging/folders/mf03a.html
footprint MF03A_N (SOT23, 3-Leads, Body 2.9x1.3mm, Pitch 0.95mm, Lead Span 2.4mm, IPC Medium Density)
footprint MF03A_L (SOT23, 3-Leads, Body 2.9x1.3mm, Pitch 0.95mm, Lead Span 2.4mm, IPC High Density)
footprint MF03A_M (SOT23, 3-Leads, Body 2.9x1.3mm, Pitch 0.95mm, Lead Span 2.4mm, IPC Low Density)
pins: 1 +V, 2 -V, 3 NC